# EAGLE library part MOLEX_SL_19 (library molex-sl-connectors_jw)
Molex SL-Series PCB Header, 19-Pos, 0.1" (2.54mm) Centers
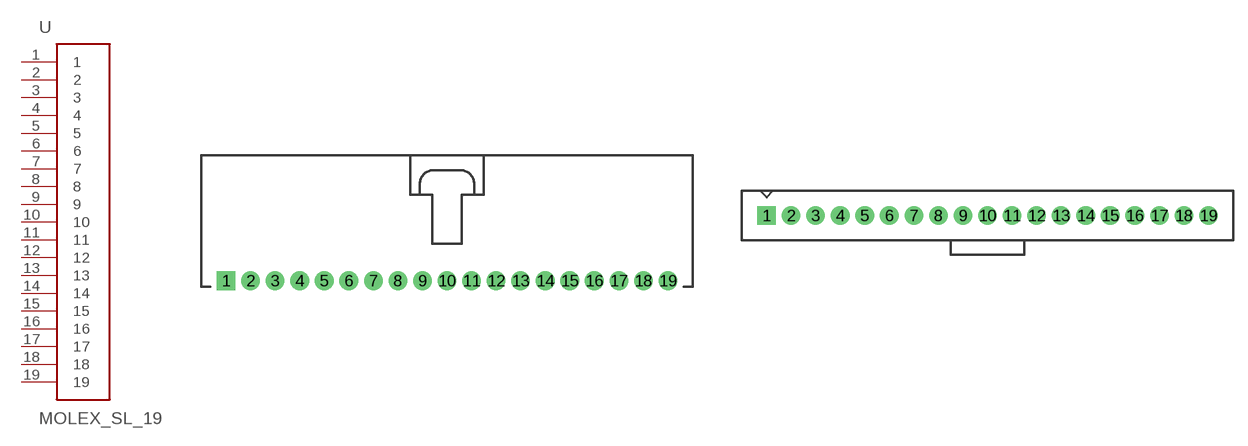
[diagram p13: symbol with the pads of SL_70553_19; footprints SL_70553_19, SL_70543_19]

Designator prefix -

## MOLEX_SL_19-70553  [SL_70553_19]
1  1
2  2
3  3
4  4
5  5
6  6
7  7
8  8
9  9
10  10
11  11
12  12
13  13
14  14
15  15
16  16
17  17
18  18
19  19

## MOLEX_SL_19-70543-74095  [SL_70543_19]
Pads as for SL_70553_19

## MOLEX_SL_19-70541-70545  [SL_70541_19]
Pads as for SL_70553_19

## MOLEX_SL_19-70551  [SL_70551_19]
Pads as for SL_70553_19

## MOLEX_SL_19-70555  [SL_70555_19]
Pads as for SL_70553_19

## MOLEX_SL_19-70634  [SL_70634_19]
Pads as for SL_70553_19

## MOLEX_SL_19-87898  [SL_87898_19]
Pads as for SL_70553_19

## Footprint SL_70553_19 (pad centres in mm)
Right-Angle Header w/ Latch (no pegs) 70553-0018 70553-0053 70553-0123 70553-0158
drill 1.1 pad 1.93 square: 1 -22.86,-5.08
drill 1.1 pad 1.93: 2 -20.32,-5.08; 3 -17.78,-5.08; 4 -15.24,-5.08; 5 -12.7,-5.08; 6 -10.16,-5.08; 7 -7.62,-5.08; 8 -5.08,-5.08; 9 -2.54,-5.08; 10 0,-5.08; 11 2.54,-5.08; 12 5.08,-5.08; 13 7.62,-5.08; 14 10.16,-5.08; 15 12.7,-5.08; 16 15.24,-5.08; 17 17.78,-5.08; 18 20.32,-5.08; 19 22.86,-5.08

## Footprint SL_70543_19 (pad centres in mm)
Vertical Header w/ Latch & Optional Compliant Pins (no pegs) Normal Pins: 70543-0018 70543-0053 70543-0088 70543-0123 70543-0158 70543-0182 70543-0217 70543-0265 70543-0289 70543-0313 Compliant Pins 74095-0019 74095-0049 74095-0079 74095-1049 74095-1079
drill 1.1 pad 1.93 square: 1 -22.86,1.27
drill 1.1 pad 1.93: 2 -20.32,1.27; 3 -17.78,1.27; 4 -15.24,1.27; 5 -12.7,1.27; 6 -10.16,1.27; 7 -7.62,1.27; 8 -5.08,1.27; 9 -2.54,1.27; 10 0,1.27; 11 2.54,1.27; 12 5.08,1.27; 13 7.62,1.27; 14 10.16,1.27; 15 12.7,1.27; 16 15.24,1.27; 17 17.78,1.27; 18 20.32,1.27; 19 22.86,1.27

## Footprint SL_70541_19 (pad centres in mm)
Vertical Header w/ Latch & Pegs With Split Pegs: 70541-0018 70541-0053 70541-0088 With Tri-Pegs: 70545-0018 70545-0053 70545-0088
drill 1.1 pad 1.93 square: 1 -22.86,1.27
drill 1.1 pad 1.93: 2 -20.32,1.27; 3 -17.78,1.27; 4 -15.24,1.27; 5 -12.7,1.27; 6 -10.16,1.27; 7 -7.62,1.27; 8 -5.08,1.27; 9 -2.54,1.27; 10 0,1.27; 11 2.54,1.27; 12 5.08,1.27; 13 7.62,1.27; 14 10.16,1.27; 15 12.7,1.27; 16 15.24,1.27; 17 17.78,1.27; 18 20.32,1.27; 19 22.86,1.27
hole 3.404 at -26.924,0.508
hole 3.404 at 26.924,0.508

## Footprint SL_70551_19 (pad centres in mm)
Right-Angle Header w/ Latch & Split Pegs 70551-0018 70551-0053 70551-0088
drill 1.1 pad 1.93 square: 1 -22.86,-5.08
drill 1.1 pad 1.93: 2 -20.32,-5.08; 3 -17.78,-5.08; 4 -15.24,-5.08; 5 -12.7,-5.08; 6 -10.16,-5.08; 7 -7.62,-5.08; 8 -5.08,-5.08; 9 -2.54,-5.08; 10 0,-5.08; 11 2.54,-5.08; 12 5.08,-5.08; 13 7.62,-5.08; 14 10.16,-5.08; 15 12.7,-5.08; 16 15.24,-5.08; 17 17.78,-5.08; 18 20.32,-5.08; 19 22.86,-5.08
hole 3.404 at -24.13,3.556
hole 3.404 at 24.13,3.556

## Footprint SL_70555_19 (pad centres in mm)
Right-Angle Header w/ Latch & Tri-Pegs 70555-0018 70555-0053 70555-0088 70555-5018
drill 1.1 pad 1.93 square: 1 -22.86,-5.08
drill 1.1 pad 1.93: 2 -20.32,-5.08; 3 -17.78,-5.08; 4 -15.24,-5.08; 5 -12.7,-5.08; 6 -10.16,-5.08; 7 -7.62,-5.08; 8 -5.08,-5.08; 9 -2.54,-5.08; 10 0,-5.08; 11 2.54,-5.08; 12 5.08,-5.08; 13 7.62,-5.08; 14 10.16,-5.08; 15 12.7,-5.08; 16 15.24,-5.08; 17 17.78,-5.08; 18 20.32,-5.08; 19 22.86,-5.08
hole 3.404 at -24.257,3.556
hole 3.404 at 24.257,3.556

## Footprint SL_70634_19 (pad centres in mm)
SMD Right-Angle Header w/ Latch & PCB Pegs 70634-0018 70634-0053 70634-0088 70634-0123 70634-0158 70634-0193 70634-0219
smd 1.651 x 5.334: 1 -22.86,-7.62; 2 -20.32,-7.62; 3 -17.78,-7.62; 4 -15.24,-7.62; 5 -12.7,-7.62; 6 -10.16,-7.62; 7 -7.62,-7.62; 8 -5.08,-7.62; 9 -2.54,-7.62; 10 0,-7.62; 11 2.54,-7.62; 12 5.08,-7.62; 13 7.62,-7.62; 14 10.16,-7.62; 15 12.7,-7.62; 16 15.24,-7.62; 17 17.78,-7.62; 18 20.32,-7.62; 19 22.86,-7.62
hole 3.404 at -24.282,3.048
hole 3.404 at 24.257,3.099

## Footprint SL_87898_19 (pad centres in mm)
SMD Vertical Header (no latch or pegs) Package also includes Pick-N-Place Cap Tube packaging w/o Pick-N-Place Cap: 87898-1921 87898-1922 87898-1924 87898-1925 87898-1926 Tube packaging w/ Pick-N-Place Cap: 87898-1931 87898-1932 87898-1934 87898-1935 87898-1936 Tape & Reel packaging w/ Pick-N-Place Cap: 87898-1951 87898-1952 87898-1954 87898-1955 87898-1956
smd 1.27 x 2.946: 1 -22.86,1.803; 2 -20.32,-1.803; 3 -17.78,1.803; 4 -15.24,-1.803; 5 -12.7,1.803; 6 -10.16,-1.803; 7 -7.62,1.803; 8 -5.08,-1.803; 9 -2.54,1.803; 10 0,-1.803; 11 2.54,1.803; 12 5.08,-1.803; 13 7.62,1.803; 14 10.16,-1.803; 15 12.7,1.803; 16 15.24,-1.803; 17 17.78,1.803; 18 20.32,-1.803; 19 22.86,1.803